# EAGLE library part ESP8266-ESP12E/F-ADAPTED (library Nextion handheld controller)
ESP8266 Wifi module 12
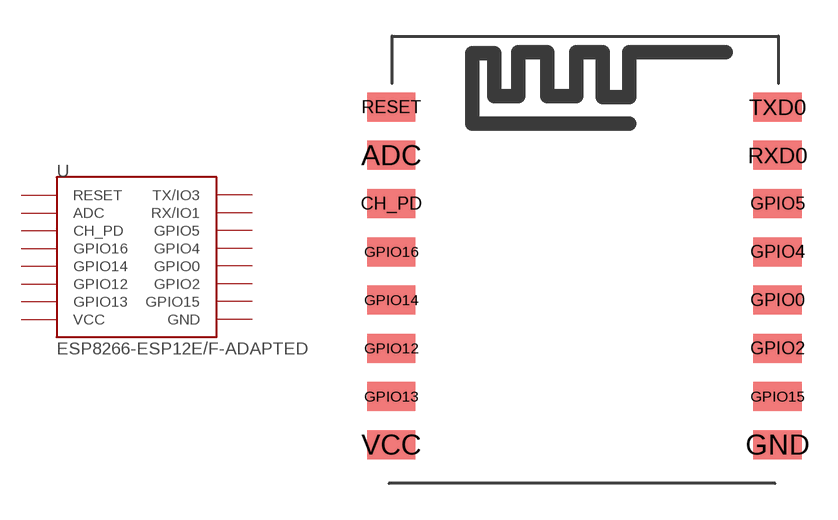
[diagram p13: symbol with the pads of ESP8266-12-SMD-ADAPTED; footprint ESP8266-12-SMD-ADAPTED]

Designator prefix U

## ESP8266-ESP12E/F-ADAPTED  [ESP8266-12-SMD-ADAPTED]
ADC  ADC
CH_PD  CH_PD
GND  GND
GPIO0  GPIO0
GPIO2  GPIO2
GPIO4  GPIO4
GPIO5  GPIO5
GPIO12  GPIO12
GPIO13  GPIO13
GPIO14  GPIO14
GPIO15  GPIO15
GPIO16  GPIO16
RESET  RESET
RXD0  RX/IO1
TXD0  TX/IO3
VCC  VCC

## Footprint ESP8266-12-SMD-ADAPTED (pad centres in mm)
ESP8266 Module 12 SMD pads adapted
smd 2 x 1.2: ADC -8,3.8; CH_PD -8,1.8; GND 8,-8.2; GPIO0 8,-2.2; GPIO2 8,-4.2; GPIO4 8,-0.2; GPIO5 8,1.8; GPIO12 -8,-4.2; GPIO13 -8,-6.2; GPIO14 -8,-2.2; GPIO15 8,-6.2; GPIO16 -8,-0.2; RESET -8,5.8; RXD0 8,3.8; TXD0 8,5.8; VCC -8,-8.2